# Altium schematic symbol library ESDA6V1U1.SchLib: 1 symbol
Pins are listed as number, name and electrical type; pins without a type are passive.

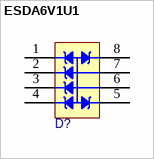
[diagram p0: symbol ESDA6V1U1]

## ESDA6V1U1
designator D?
pins: 1 I/O 1, 2 I/O 2, 3 I/O 3, 4 I/O 4, 5 I/O 5, 6 GND, 7 GND, 8 I/O 6